# EAGLE library part LM3478 (library texas)
SEPIC Regulator Positive Output Boost, Flyback, Step-Up, Step-Up/Step-Down DC-DC Controller
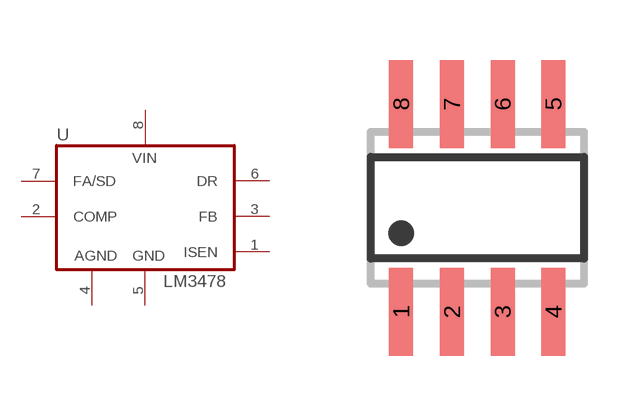
[diagram p121: symbol with the pads of SO08; footprint SO08]

Designator prefix U

## LM3478D  [SO08]
1  ISEN  in
2  COMP  in
3  FB  in
4  AGND  pwr
5  PGND  pwr
6  DR  out
7  FA/SD  in
8  VIN  pwr

## Footprint SO08 (pad centres in mm)
SMALL OUTLINE INTEGRATED CIRCUIT body 3.9 mm/JEDEC MS-012AA
smd 0.6 x 2.2: 1 -1.905,-2.6; 2 -0.635,-2.6; 3 0.635,-2.6; 4 1.905,-2.6; 5 1.905,2.6; 6 0.635,2.6; 7 -0.635,2.6; 8 -1.905,2.6